# EAGLE library part 614004185023 (library Wurth_Elektronik_Electromechanic_Input-Output_Connectors_rev16b)
USB TYPE A VERTICAL THT - SHORT TYPE =>ConUSB2 61400185023 Characteristics INSULATOR:PBT FLAMMABILITY RATING: UL94-V0 COLOR: WHITE CONTACT MATERIAL: COPPER ALLOY CONTACT PLATING: GOLD OVER Ni COVER MATERIAL: BRASS COVER PLATING: Ni QUALITY CLASS:15000 MATING CYCLES OPERATING TEMPERATURE:-55°C UP TO +85°C COMPLIANCE: LEAD FREE AND ROHS ELECTRICAL CURRENT RATING: 1.5A MAX WORKING VOLTAGE: 30 VAC MAX WITHSTANDING VOLTAGE: 500 VAC/MIN INSULATION RESISTANCE: > 1000 MΩ CONTACT RESISTANCE: 30 mΩ MAX <http://katalog.we-online.de/media/images/v2/Family_WR-COM_614004185023_4C.jpg> Details see: http://katalog.we-online.de/en/em/COM_THT_TYPE_A_VERTICAL_SHORT_TYPE/614004185023 2015 (C) Wurth Elektronik
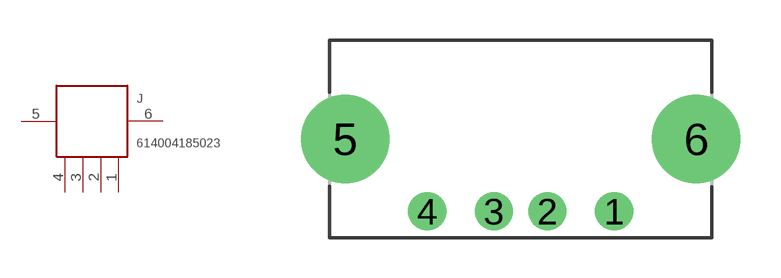
[diagram p183: symbol with the pads of 614004185023; footprint 614004185023]

Designator prefix J

## 614004185023  [614004185023]
1  1
2  2
3  3
4  4
5  5
6  6

## Footprint 614004185023 (pad centres in mm)
drill 0.92: 1 3.5,-2.71; 2 1,-2.71; 3 -1,-2.71; 4 -3.5,-2.71
drill 2.3: 5 -6.57,0; 6 6.57,0